# Altium integrated library ON Semi Signal Management Data Switches.IntLib: 121 symbols (part 1 of 4)
Pins are listed as number, name and electrical type; pins without a type are passive.

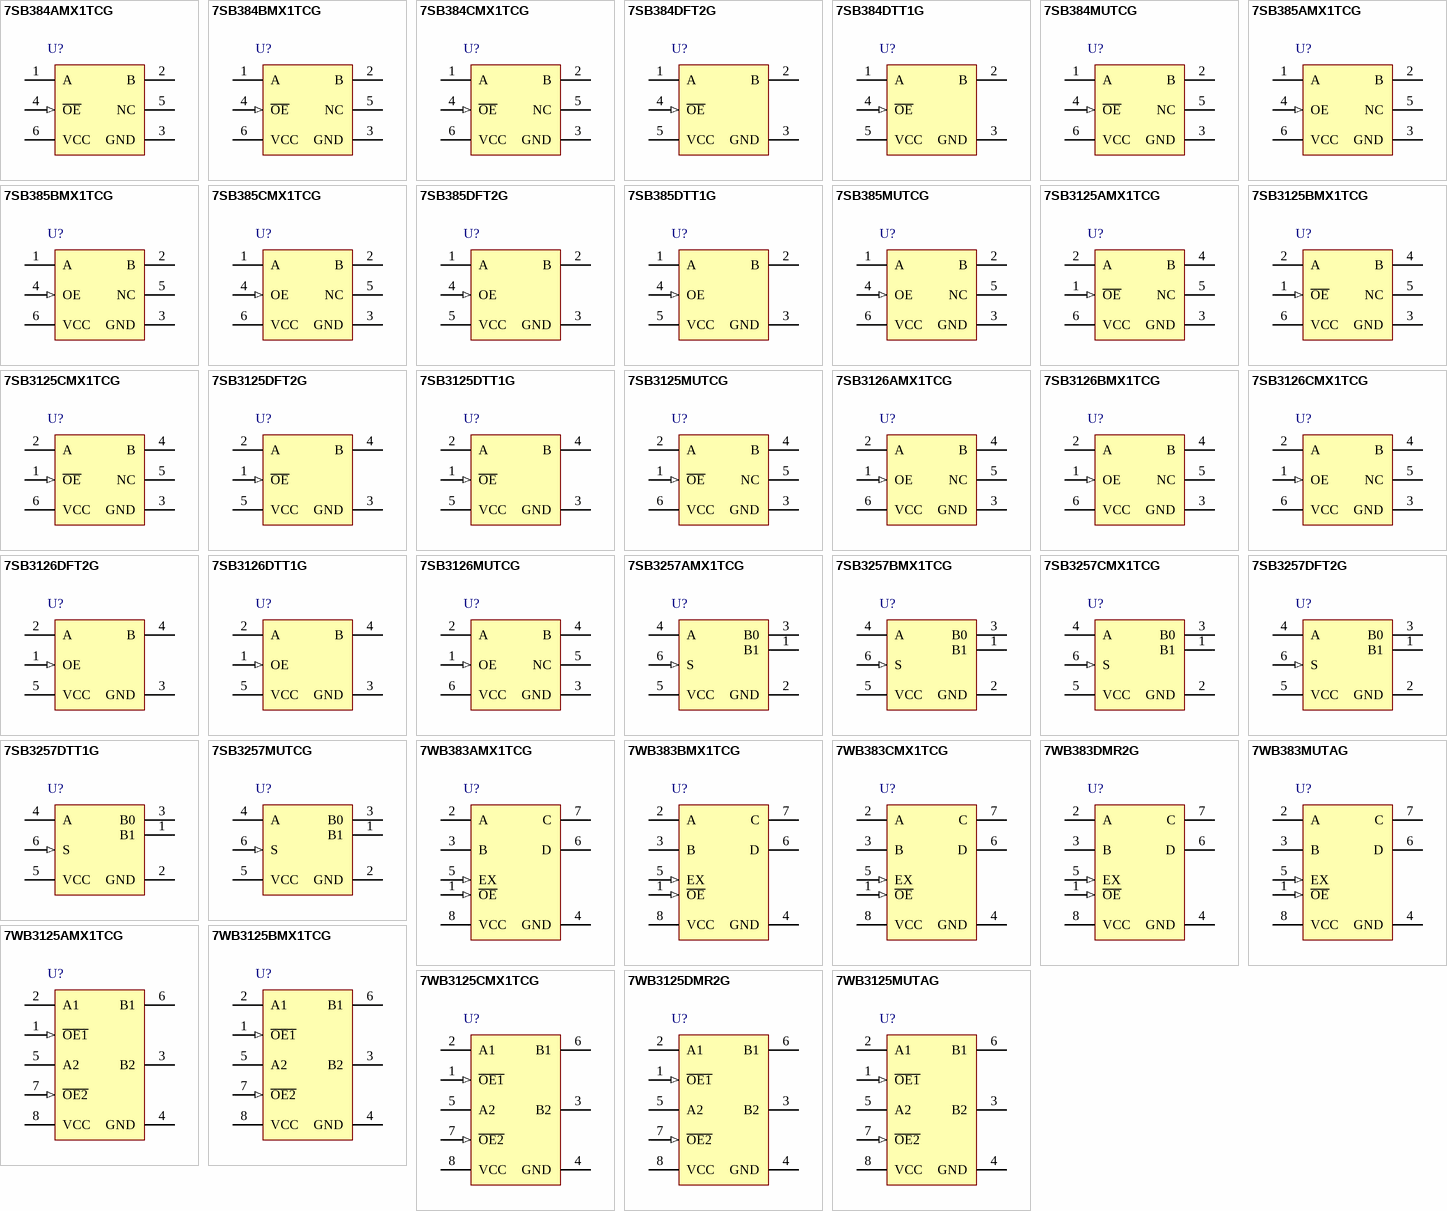
[diagram p0: symbols 7SB384AMX1TCG to 7WB3125MUTAG]

## 7SB384AMX1TCG
designator U?
Bus Switch, 4 to 5.5 V, -55 to 125 degC, 6-Pin ULLGA, Pb-Free, Tape and Reel; Manufacturer: On Semiconductor; PartNumber: 7SB384AMX1TCG; VCC Max (V): 5.5; VCC Min (V): 4; DatasheetVersion: Rev. 2; PackageVersion: Rev. A, 02/2008; PackageReference: ULLGA-6-613AF-01; PackageDescription: 6-Pin Land Grid Array, Body 1.45 x 1 mm, Pitch 0.5 mm; Supplier 1: Digi-Key; Supplier Part Number 1: 7SB384AMX1TCG-ND; Supplier 2: Mouser; Supplier Part Number 2: 863-7SB384AMX1TCG; Packing: Tape and Reel; RoHS: TRUE; Mounting Technology: Surface Mount; ComponentLink1Description: Manufacturer URL; ComponentLink1URL: http://www.onsemi.com/; ComponentLink2Description: Datasheet; ComponentLink2URL: http://www.onsemi.com/pub_link/Collateral/7SB384-D.PDF; ComponentLink3Description: Package Specification; ComponentLink3URL: http://www.onsemi.com/pub_link/Collateral/613AF.PDF
footprint ONSC-ULLGA-6-613AF-01_V (SON, 6-Leads, Body 1.45x1mm, Pitch 0.5mm)
pins: 1 A, 2 B, 3 GND (power), 4 ~{OE} (in), 5 NC, 6 VCC (power)

## 7SB384BMX1TCG
designator U?
Bus Switch, 4 to 5.5 V, -55 to 125 degC, 6-Pin ULLGA, Pb-Free, Tape and Reel; Manufacturer: On Semiconductor; PartNumber: 7SB384BMX1TCG; VCC Max (V): 5.5; VCC Min (V): 4; DatasheetVersion: Rev. 2; PackageVersion: Rev. A, 02/2008; PackageReference: ULLGA-6-613AE-01; PackageDescription: 6-Pin Land Grid Array, Body 1.2 x 1 mm, Pitch 0.4 mm; Supplier 1: Digi-Key; Supplier Part Number 1: 7SB384BMX1TCG-ND; Supplier 2: Mouser; Supplier Part Number 2: 863-7SB384BMX1TCG; Packing: Tape and Reel; RoHS: TRUE; Mounting Technology: Surface Mount; ComponentLink1Description: Manufacturer URL; ComponentLink1URL: http://www.onsemi.com/; ComponentLink2Description: Datasheet; ComponentLink2URL: http://www.onsemi.com/pub_link/Collateral/7SB384-D.PDF; ComponentLink3Description: Package Specification; ComponentLink3URL: http://www.onsemi.com/pub_link/Collateral/613AE.PDF
footprint ONSC-ULLGA-6-613AE-01_V (SON, 6-Leads, Body 1.2x1mm, Pitch 0.4mm)
pins: 1 A, 2 B, 3 GND (power), 4 ~{OE} (in), 5 NC, 6 VCC (power)

## 7SB384CMX1TCG
designator U?
Bus Switch, 4 to 5.5 V, -55 to 125 degC, 6-Pin ULLGA, Pb-Free, Tape and Reel; Manufacturer: On Semiconductor; PartNumber: 7SB384CMX1TCG; VCC Max (V): 5.5; VCC Min (V): 4; DatasheetVersion: Rev. 2; PackageVersion: Rev. A, 02/2008; PackageReference: ULLGA-6-613AD-01; PackageDescription: 6-Pin Land Grid Array, Body 1 x 1 mm, Pitch 0.35 mm; Supplier 1: Digi-Key; Supplier Part Number 1: 7SB384CMX1TCG-ND; Supplier 2: Mouser; Supplier Part Number 2: 863-7SB384CMX1TCG; Packing: Tape and Reel; RoHS: TRUE; Mounting Technology: Surface Mount; ComponentLink1Description: Manufacturer URL; ComponentLink1URL: http://www.onsemi.com/; ComponentLink2Description: Datasheet; ComponentLink2URL: http://www.onsemi.com/pub_link/Collateral/7SB384-D.PDF; ComponentLink3Description: Package Specification; ComponentLink3URL: http://www.onsemi.com/pub_link/Collateral/613AD.PDF
footprint ONSC-ULLGA-6-613AD-01_V (SON, 6-Leads, Body 1x1mm, Pitch 0.35mm)
pins: 1 A, 2 B, 3 GND (power), 4 ~{OE} (in), 5 NC, 6 VCC (power)

## 7SB384DFT2G
designator U?
Bus Switch, 4 to 5.5 V, -55 to 125 degC, 5-Pin SC-88A, Pb-Free, Tape and Reel; Manufacturer: On Semiconductor; PartNumber: 7SB384DFT2G; VCC Max (V): 5.5; VCC Min (V): 4; DatasheetVersion: Rev. 2; PackageVersion: Rev. K, 07/2010; PackageReference: SC-88A-5-419A-02_K; PackageDescription: 5-Pin Small Outline Transistor, Body 2 x 1.25 mm, Pitch 0.65 mm; Supplier 1: Digi-Key; Supplier Part Number 1: 7SB384DFT2G-ND; Supplier 2: Mouser; Supplier Part Number 2: 863-7SB384DFT2G; Packing: Tape and Reel; RoHS: TRUE; Mounting Technology: Surface Mount; ComponentLink1Description: Manufacturer URL; ComponentLink1URL: http://www.onsemi.com/; ComponentLink2Description: Datasheet; ComponentLink2URL: http://www.onsemi.com/pub_link/Collateral/7SB384-D.PDF; ComponentLink3Description: Package Specification; ComponentLink3URL: http://www.onsemi.com/pub_link/Collateral/MC74VHC1G05-D.PDF
footprint ONSC-SC-88A-5-419A-02_K_N (SOT23, 5-Leads, Body 2.2x1.35mm, Pitch 0.65mm, IPC Medium Density)
footprint ONSC-SC-88A-5-419A-02_K_L (SOT23, 5-Leads, Body 2.2x1.35mm, Pitch 0.65mm, IPC High Density)
footprint ONSC-SC-88A-5-419A-02_K_M (SOT23, 5-Leads, Body 2.2x1.35mm, Pitch 0.65mm, IPC Low Density)
pins: 1 A, 2 B, 3 GND (power), 4 ~{OE} (in), 5 VCC (power)

## 7SB384DTT1G
designator U?
Bus Switch, 4 to 5.5 V, -55 to 125 degC, 5-Pin TSOP, Pb-Free, Tape and Reel; Manufacturer: On Semiconductor; PartNumber: 7SB384DTT1G; VCC Max (V): 5.5; VCC Min (V): 4; DatasheetVersion: Rev. 2; PackageVersion: Rev. K, 04/2013; PackageReference: TSOP-5-483-02; PackageDescription: 5-Pin Small Outline Package, Body 3 x 1.5 mm, Pitch 0.95 mm; Supplier 1: Digi-Key; Supplier Part Number 1: 7SB384DTT1G-ND; Supplier 2: Mouser; Supplier Part Number 2: 863-7SB384DTT1G; Packing: Tape and Reel; RoHS: TRUE; Mounting Technology: Surface Mount; ComponentLink1Description: Manufacturer URL; ComponentLink1URL: http://www.onsemi.com/; ComponentLink2Description: Datasheet; ComponentLink2URL: http://www.onsemi.com/pub_link/Collateral/7SB384-D.PDF; ComponentLink3Description: Package Specification; ComponentLink3URL: http://www.onsemi.com/pub_link/Collateral/483.PDF
footprint ONSC-TSOP-5-483-02_V (SOP, 5-Leads, Body 3x1.5mm, Pitch 0.95mm)
pins: 1 A, 2 B, 3 GND (power), 4 ~{OE} (in), 5 VCC (power)

## 7SB384MUTCG
designator U?
Bus Switch, 4 to 5.5 V, -55 to 125 degC, 6-Pin UDFN, Pb-Free, Tape and Reel; Manufacturer: On Semiconductor; PartNumber: 7SB384MUTCG; VCC Max (V): 5.5; VCC Min (V): 4; DatasheetVersion: Rev. 2; PackageVersion: Rev. D, 09/2010; PackageReference: UDFN-6-517AA-01; PackageDescription: 6-Pin Small Outline No-Lead, Body 1.2 x 1 mm, Pitch 0.4 mm; Supplier 1: Digi-Key; Supplier Part Number 1: 7SB384MUTCG-ND; Supplier 2: Mouser; Supplier Part Number 2: 863-7SB384MUTCG; Packing: Tape and Reel; RoHS: TRUE; Mounting Technology: Surface Mount; ComponentLink1Description: Manufacturer URL; ComponentLink1URL: http://www.onsemi.com/; ComponentLink2Description: Datasheet; ComponentLink2URL: http://www.onsemi.com/pub_link/Collateral/7SB384-D.PDF; ComponentLink3Description: Package Specification; ComponentLink3URL: http://www.onsemi.com/pub_link/Collateral/517AA.PDF
footprint ONSC-UDFN-6-517AA-01_V (SON, 6-Leads, Body 1.2x1mm, Pitch 0.4mm)
pins: 1 A, 2 B, 3 GND (power), 4 ~{OE} (in), 5 NC, 6 VCC (power)

## 7SB385AMX1TCG
designator U?
Bus Switch, 4 to 5.5 V, -55 to 125 degC, 6-Pin ULLGA, Pb-Free, Tape and Reel; Manufacturer: On Semiconductor; PartNumber: 7SB385AMX1TCG; VCC Max (V): 5.5; VCC Min (V): 4; DatasheetVersion: Rev. 2; PackageVersion: Rev. A, 02/2008; PackageReference: ULLGA-6-613AF-01; PackageDescription: 6-Pin Land Grid Array, Body 1.45 x 1 mm, Pitch 0.5 mm; Supplier 1: Digi-Key; Supplier Part Number 1: 7SB385AMX1TCG-ND; Supplier 2: Mouser; Supplier Part Number 2: 863-7SB385AMX1TCG; Packing: Tape and Reel; RoHS: TRUE; Mounting Technology: Surface Mount; ComponentLink1Description: Manufacturer URL; ComponentLink1URL: http://www.onsemi.com/; ComponentLink2Description: Datasheet; ComponentLink2URL: http://www.onsemi.com/pub_link/Collateral/7SB385-D.PDF; ComponentLink3Description: Package Specification; ComponentLink3URL: http://www.onsemi.com/pub_link/Collateral/613AF.PDF
footprint ONSC-ULLGA-6-613AF-01_V (SON, 6-Leads, Body 1.45x1mm, Pitch 0.5mm)
pins: 1 A, 2 B, 3 GND (power), 4 OE (in), 5 NC, 6 VCC (power)

## 7SB385BMX1TCG
designator U?
Bus Switch, 4 to 5.5 V, -55 to 125 degC, 6-Pin ULLGA, Pb-Free, Tape and Reel; Manufacturer: On Semiconductor; PartNumber: 7SB385BMX1TCG; VCC Max (V): 5.5; VCC Min (V): 4; DatasheetVersion: Rev. 2; PackageVersion: Rev. A, 02/2008; PackageReference: ULLGA-6-613AE-01; PackageDescription: 6-Pin Land Grid Array, Body 1.2 x 1 mm, Pitch 0.4 mm; Supplier 1: Digi-Key; Supplier Part Number 1: 7SB385BMX1TCG-ND; Supplier 2: Mouser; Supplier Part Number 2: 863-7SB385BMX1TCG; Packing: Tape and Reel; RoHS: TRUE; Mounting Technology: Surface Mount; ComponentLink1Description: Manufacturer URL; ComponentLink1URL: http://www.onsemi.com/; ComponentLink2Description: Datasheet; ComponentLink2URL: http://www.onsemi.com/pub_link/Collateral/7SB385-D.PDF; ComponentLink3Description: Package Specification; ComponentLink3URL: http://www.onsemi.com/pub_link/Collateral/613AE.PDF
footprint ONSC-ULLGA-6-613AE-01_V (SON, 6-Leads, Body 1.2x1mm, Pitch 0.4mm)
pins: 1 A, 2 B, 3 GND (power), 4 OE (in), 5 NC, 6 VCC (power)

## 7SB385CMX1TCG
designator U?
Bus Switch, 4 to 5.5 V, -55 to 125 degC, 6-Pin ULLGA, Pb-Free, Tape and Reel; Manufacturer: On Semiconductor; PartNumber: 7SB385CMX1TCG; VCC Max (V): 5.5; VCC Min (V): 4; DatasheetVersion: Rev. 2; PackageVersion: Rev. A, 02/2008; PackageReference: ULLGA-6-613AD-01; PackageDescription: 6-Pin Land Grid Array, Body 1 x 1 mm, Pitch 0.35 mm; Supplier 1: Digi-Key; Supplier Part Number 1: 7SB385CMX1TCG-ND; Supplier 2: Mouser; Supplier Part Number 2: 863-7SB385CMX1TCG; Packing: Tape and Reel; RoHS: TRUE; Mounting Technology: Surface Mount; ComponentLink1Description: Manufacturer URL; ComponentLink1URL: http://www.onsemi.com/; ComponentLink2Description: Datasheet; ComponentLink2URL: http://www.onsemi.com/pub_link/Collateral/7SB385-D.PDF; ComponentLink3Description: Package Specification; ComponentLink3URL: http://www.onsemi.com/pub_link/Collateral/613AD.PDF
footprint ONSC-ULLGA-6-613AD-01_V (SON, 6-Leads, Body 1x1mm, Pitch 0.35mm)
pins: 1 A, 2 B, 3 GND (power), 4 OE (in), 5 NC, 6 VCC (power)

## 7SB385DFT2G
designator U?
Bus Switch, 4 to 5.5 V, -55 to 125 degC, 5-Pin SC-88A, Pb-Free, Tape and Reel; Manufacturer: On Semiconductor; PartNumber: 7SB385DFT2G; VCC Max (V): 5.5; VCC Min (V): 4; DatasheetVersion: Rev. 2; PackageVersion: Rev. K, 07/2010; PackageReference: SC-88A-5-419A-02_K; PackageDescription: 5-Pin Small Outline Transistor, Body 2 x 1.25 mm, Pitch 0.65 mm; Supplier 1: Digi-Key; Supplier Part Number 1: 7SB385DFT2G-ND; Supplier 2: Mouser; Supplier Part Number 2: 863-7SB385DFT2G; Packing: Tape and Reel; RoHS: TRUE; Mounting Technology: Surface Mount; ComponentLink1Description: Manufacturer URL; ComponentLink1URL: http://www.onsemi.com/; ComponentLink2Description: Datasheet; ComponentLink2URL: http://www.onsemi.com/pub_link/Collateral/7SB385-D.PDF; ComponentLink3Description: Package Specification; ComponentLink3URL: http://www.onsemi.com/pub_link/Collateral/MC74VHC1G05-D.PDF
footprint ONSC-SC-88A-5-419A-02_K_N (SOT23, 5-Leads, Body 2.2x1.35mm, Pitch 0.65mm, IPC Medium Density)
footprint ONSC-SC-88A-5-419A-02_K_L (SOT23, 5-Leads, Body 2.2x1.35mm, Pitch 0.65mm, IPC High Density)
footprint ONSC-SC-88A-5-419A-02_K_M (SOT23, 5-Leads, Body 2.2x1.35mm, Pitch 0.65mm, IPC Low Density)
pins: 1 A, 2 B, 3 GND (power), 4 OE (in), 5 VCC (power)

## 7SB385DTT1G
designator U?
Bus Switch, 4 to 5.5 V, -55 to 125 degC, 5-Pin TSOP, Pb-Free, Tape and Reel; Manufacturer: On Semiconductor; PartNumber: 7SB385DTT1G; VCC Max (V): 5.5; VCC Min (V): 4; DatasheetVersion: Rev. 2; PackageVersion: Rev. K, 04/2013; PackageReference: TSOP-5-483-02; PackageDescription: 5-Pin Small Outline Package, Body 3 x 1.5 mm, Pitch 0.95 mm; Supplier 1: Digi-Key; Supplier Part Number 1: 7SB385DTT1G-ND; Supplier 2: Mouser; Supplier Part Number 2: 863-7SB385DTT1G; Packing: Tape and Reel; RoHS: TRUE; Mounting Technology: Surface Mount; ComponentLink1Description: Manufacturer URL; ComponentLink1URL: http://www.onsemi.com/; ComponentLink2Description: Datasheet; ComponentLink2URL: http://www.onsemi.com/pub_link/Collateral/7SB385-D.PDF; ComponentLink3Description: Package Specification; ComponentLink3URL: http://www.onsemi.com/pub_link/Collateral/483.PDF
footprint ONSC-TSOP-5-483-02_V (SOP, 5-Leads, Body 3x1.5mm, Pitch 0.95mm)
pins: 1 A, 2 B, 3 GND (power), 4 OE (in), 5 VCC (power)

## 7SB385MUTCG
designator U?
Bus Switch, 4 to 5.5 V, -55 to 125 degC, 6-Pin UDFN, Pb-Free, Tape and Reel; Manufacturer: On Semiconductor; PartNumber: 7SB385MUTCG; VCC Max (V): 5.5; VCC Min (V): 4; DatasheetVersion: Rev. 2; PackageVersion: Rev. D, 09/2010; PackageReference: UDFN-6-517AA-01; PackageDescription: 6-Pin Small Outline No-Lead, Body 1.2 x 1 mm, Pitch 0.4 mm; Supplier 1: Digi-Key; Supplier Part Number 1: 7SB385MUTCG-ND; Supplier 2: Mouser; Supplier Part Number 2: 863-7SB385MUTCG; Packing: Tape and Reel; RoHS: TRUE; Mounting Technology: Surface Mount; ComponentLink1Description: Manufacturer URL; ComponentLink1URL: http://www.onsemi.com/; ComponentLink2Description: Datasheet; ComponentLink2URL: http://www.onsemi.com/pub_link/Collateral/7SB385-D.PDF; ComponentLink3Description: Package Specification; ComponentLink3URL: http://www.onsemi.com/pub_link/Collateral/517AA.PDF
footprint ONSC-UDFN-6-517AA-01_V (SON, 6-Leads, Body 1.2x1mm, Pitch 0.4mm)
pins: 1 A, 2 B, 3 GND (power), 4 OE (in), 5 NC, 6 VCC (power)

## 7SB3125AMX1TCG
designator U?
Bus Switch, 4 to 5.5 V, -55 to 125 degC, 6-Pin ULLGA, Pb-Free, Tape and Reel; Manufacturer: On Semiconductor; PartNumber: 7SB3125AMX1TCG; VCC Max (V): 5.5; VCC Min (V): 4; DatasheetVersion: Rev. 1; PackageVersion: Rev. A, 02/2008; PackageReference: ULLGA-6-613AF-01; PackageDescription: 6-Pin Land Grid Array, Body 1.45 x 1 mm, Pitch 0.5 mm; Supplier 1: Digi-Key; Supplier Part Number 1: 7SB3125AMX1TCG-ND; Supplier 2: Mouser; Supplier Part Number 2: 863-7SB3125AMX1TCG; Packing: Tape and Reel; RoHS: TRUE; Mounting Technology: Surface Mount; ComponentLink1Description: Manufacturer URL; ComponentLink1URL: http://www.onsemi.com/; ComponentLink2Description: Datasheet; ComponentLink2URL: http://www.onsemi.com/pub_link/Collateral/7SB3125-D.PDF; ComponentLink3Description: Package Specification; ComponentLink3URL: http://www.onsemi.com/pub_link/Collateral/613AF.PDF
footprint ONSC-ULLGA-6-613AF-01_V (SON, 6-Leads, Body 1.45x1mm, Pitch 0.5mm)
pins: 1 ~{OE} (in), 2 A, 3 GND (power), 4 B, 5 NC, 6 VCC (power)

## 7SB3125BMX1TCG
designator U?
Bus Switch, 4 to 5.5 V, -55 to 125 degC, 6-Pin ULLGA, Pb-Free, Tape and Reel; Manufacturer: On Semiconductor; PartNumber: 7SB3125BMX1TCG; VCC Max (V): 5.5; VCC Min (V): 4; DatasheetVersion: Rev. 1; PackageVersion: Rev. A, 02/2008; PackageReference: ULLGA-6-613AE-01; PackageDescription: 6-Pin Land Grid Array, Body 1.2 x 1 mm, Pitch 0.4 mm; Supplier 1: Digi-Key; Supplier Part Number 1: 7SB3125BMX1TCG-ND; Supplier 2: Mouser; Supplier Part Number 2: 863-7SB3125BMX1TCG; Packing: Tape and Reel; RoHS: TRUE; Mounting Technology: Surface Mount; ComponentLink1Description: Manufacturer URL; ComponentLink1URL: http://www.onsemi.com/; ComponentLink2Description: Datasheet; ComponentLink2URL: http://www.onsemi.com/pub_link/Collateral/7SB3125-D.PDF; ComponentLink3Description: Package Specification; ComponentLink3URL: http://www.onsemi.com/pub_link/Collateral/613AE.PDF
footprint ONSC-ULLGA-6-613AE-01_V (SON, 6-Leads, Body 1.2x1mm, Pitch 0.4mm)
pins: 1 ~{OE} (in), 2 A, 3 GND (power), 4 B, 5 NC, 6 VCC (power)

## 7SB3125CMX1TCG
designator U?
Bus Switch, 4 to 5.5 V, -55 to 125 degC, 6-Pin ULLGA, Pb-Free, Tape and Reel; Manufacturer: On Semiconductor; PartNumber: 7SB3125CMX1TCG; VCC Max (V): 5.5; VCC Min (V): 4; DatasheetVersion: Rev. 1; PackageVersion: Rev. A, 02/2008; PackageReference: ULLGA-6-613AD-01; PackageDescription: 6-Pin Land Grid Array, Body 1 x 1 mm, Pitch 0.35 mm; Supplier 1: Digi-Key; Supplier Part Number 1: 7SB3125CMX1TCG-ND; Supplier 2: Mouser; Supplier Part Number 2: 863-7SB3125CMX1TCG; Packing: Tape and Reel; RoHS: TRUE; Mounting Technology: Surface Mount; ComponentLink1Description: Manufacturer URL; ComponentLink1URL: http://www.onsemi.com/; ComponentLink2Description: Datasheet; ComponentLink2URL: http://www.onsemi.com/pub_link/Collateral/7SB3125-D.PDF; ComponentLink3Description: Package Specification; ComponentLink3URL: http://www.onsemi.com/pub_link/Collateral/613AD.PDF
footprint ONSC-ULLGA-6-613AD-01_V (SON, 6-Leads, Body 1x1mm, Pitch 0.35mm)
pins: 1 ~{OE} (in), 2 A, 3 GND (power), 4 B, 5 NC, 6 VCC (power)

## 7SB3125DFT2G
designator U?
Bus Switch, 4 to 5.5 V, -55 to 125 degC, 5-Pin SC-88A, Pb-Free, Tape and Reel; Manufacturer: On Semiconductor; PartNumber: 7SB3125DFT2G; VCC Max (V): 5.5; VCC Min (V): 4; DatasheetVersion: Rev. 1; PackageVersion: Rev. K, 07/2010; PackageReference: SC-88A-5-419A-02_K; PackageDescription: 5-Pin Small Outline Transistor, Body 2 x 1.25 mm, Pitch 0.65 mm; Supplier 1: Digi-Key; Supplier Part Number 1: 7SB3125DFT2G-ND; Supplier 2: Mouser; Supplier Part Number 2: 863-7SB3125DFT2G; Packing: Tape and Reel; RoHS: TRUE; Mounting Technology: Surface Mount; ComponentLink1Description: Manufacturer URL; ComponentLink1URL: http://www.onsemi.com/; ComponentLink2Description: Datasheet; ComponentLink2URL: http://www.onsemi.com/pub_link/Collateral/7SB3125-D.PDF; ComponentLink3Description: Package Specification; ComponentLink3URL: http://www.onsemi.com/pub_link/Collateral/MC74VHC1G05-D.PDF
footprint ONSC-SC-88A-5-419A-02_K_N (SOT23, 5-Leads, Body 2.2x1.35mm, Pitch 0.65mm, IPC Medium Density)
footprint ONSC-SC-88A-5-419A-02_K_L (SOT23, 5-Leads, Body 2.2x1.35mm, Pitch 0.65mm, IPC High Density)
footprint ONSC-SC-88A-5-419A-02_K_M (SOT23, 5-Leads, Body 2.2x1.35mm, Pitch 0.65mm, IPC Low Density)
pins: 1 ~{OE} (in), 2 A, 3 GND (power), 4 B, 5 VCC (power)

## 7SB3125DTT1G
designator U?
Bus Switch, 4 to 5.5 V, -55 to 125 degC, 5-Pin TSOP, Pb-Free, Tape and Reel; Manufacturer: On Semiconductor; PartNumber: 7SB3125DTT1G; VCC Max (V): 5.5; VCC Min (V): 4; DatasheetVersion: Rev. 1; PackageVersion: Rev. K, 04/2013; PackageReference: TSOP-5-483-02; PackageDescription: 5-Pin Small Outline Package, Body 3 x 1.5 mm, Pitch 0.95 mm; Supplier 1: Digi-Key; Supplier Part Number 1: 7SB3125DTT1G-ND; Supplier 2: Mouser; Supplier Part Number 2: 863-7SB3125DTT1G; Packing: Tape and Reel; RoHS: TRUE; Mounting Technology: Surface Mount; ComponentLink1Description: Manufacturer URL; ComponentLink1URL: http://www.onsemi.com/; ComponentLink2Description: Datasheet; ComponentLink2URL: http://www.onsemi.com/pub_link/Collateral/7SB3125-D.PDF; ComponentLink3Description: Package Specification; ComponentLink3URL: http://www.onsemi.com/pub_link/Collateral/483.PDF
footprint ONSC-TSOP-5-483-02_V (SOP, 5-Leads, Body 3x1.5mm, Pitch 0.95mm)
pins: 1 ~{OE} (in), 2 A, 3 GND (power), 4 B, 5 VCC (power)

## 7SB3125MUTCG
designator U?
Bus Switch, 4 to 5.5 V, -55 to 125 degC, 6-Pin UDFN, Pb-Free, Tape and Reel; Manufacturer: On Semiconductor; PartNumber: 7SB3125MUTCG; VCC Max (V): 5.5; VCC Min (V): 4; DatasheetVersion: Rev. 1; PackageVersion: Rev. D, 09/2010; PackageReference: UDFN-6-517AA-01; PackageDescription: 6-Pin Small Outline No-Lead, Body 1.2 x 1 mm, Pitch 0.4 mm; Supplier 1: Digi-Key; Supplier Part Number 1: 7SB3125MUTCG-ND; Supplier 2: Mouser; Supplier Part Number 2: 863-7SB3125MUTCG; Packing: Tape and Reel; RoHS: TRUE; Mounting Technology: Surface Mount; ComponentLink1Description: Manufacturer URL; ComponentLink1URL: http://www.onsemi.com/; ComponentLink2Description: Datasheet; ComponentLink2URL: http://www.onsemi.com/pub_link/Collateral/7SB3125-D.PDF; ComponentLink3Description: Package Specification; ComponentLink3URL: http://www.onsemi.com/pub_link/Collateral/517AA.PDF
footprint ONSC-UDFN-6-517AA-01_V (SON, 6-Leads, Body 1.2x1mm, Pitch 0.4mm)
pins: 1 ~{OE} (in), 2 A, 3 GND (power), 4 B, 5 NC, 6 VCC (power)

## 7SB3126AMX1TCG
designator U?
Bus Switch, 4 to 5.5 V, -55 to 125 degC, 6-Pin ULLGA, Pb-Free, Tape and Reel; Manufacturer: On Semiconductor; PartNumber: 7SB3126AMX1TCG; VCC Max (V): 5.5; VCC Min (V): 4; DatasheetVersion: Rev. 1; PackageVersion: Rev. A, 02/2008; PackageReference: ULLGA-6-613AF-01; PackageDescription: 6-Pin Land Grid Array, Body 1.45 x 1 mm, Pitch 0.5 mm; Supplier 1: Digi-Key; Supplier Part Number 1: 7SB3126AMX1TCG-ND; Supplier 2: Mouser; Supplier Part Number 2: 863-7SB3126AMX1TCG; Packing: Tape and Reel; RoHS: TRUE; Mounting Technology: Surface Mount; ComponentLink1Description: Manufacturer URL; ComponentLink1URL: http://www.onsemi.com/; ComponentLink2Description: Datasheet; ComponentLink2URL: http://www.onsemi.com/pub_link/Collateral/7SB3126-D.PDF; ComponentLink3Description: Package Specification; ComponentLink3URL: http://www.onsemi.com/pub_link/Collateral/613AF.PDF
footprint ONSC-ULLGA-6-613AF-01_V (SON, 6-Leads, Body 1.45x1mm, Pitch 0.5mm)
pins: 1 OE (in), 2 A, 3 GND (power), 4 B, 5 NC, 6 VCC (power)

## 7SB3126BMX1TCG
designator U?
Bus Switch, 4 to 5.5 V, -55 to 125 degC, 6-Pin ULLGA, Pb-Free, Tape and Reel; Manufacturer: On Semiconductor; PartNumber: 7SB3126BMX1TCG; VCC Max (V): 5.5; VCC Min (V): 4; DatasheetVersion: Rev. 1; PackageVersion: Rev. A, 02/2008; PackageReference: ULLGA-6-613AE-01; PackageDescription: 6-Pin Land Grid Array, Body 1.2 x 1 mm, Pitch 0.4 mm; Supplier 1: Digi-Key; Supplier Part Number 1: 7SB3126BMX1TCG-ND; Supplier 2: Mouser; Supplier Part Number 2: 863-7SB3126BMX1TCG; Packing: Tape and Reel; RoHS: TRUE; Mounting Technology: Surface Mount; ComponentLink1Description: Manufacturer URL; ComponentLink1URL: http://www.onsemi.com/; ComponentLink2Description: Datasheet; ComponentLink2URL: http://www.onsemi.com/pub_link/Collateral/7SB3126-D.PDF; ComponentLink3Description: Package Specification; ComponentLink3URL: http://www.onsemi.com/pub_link/Collateral/613AE.PDF
footprint ONSC-ULLGA-6-613AE-01_V (SON, 6-Leads, Body 1.2x1mm, Pitch 0.4mm)
pins: 1 OE (in), 2 A, 3 GND (power), 4 B, 5 NC, 6 VCC (power)

## 7SB3126CMX1TCG
designator U?
Bus Switch, 4 to 5.5 V, -55 to 125 degC, 6-Pin ULLGA, Pb-Free, Tape and Reel; Manufacturer: On Semiconductor; PartNumber: 7SB3126CMX1TCG; VCC Max (V): 5.5; VCC Min (V): 4; DatasheetVersion: Rev. 1; PackageVersion: Rev. A, 02/2008; PackageReference: ULLGA-6-613AD-01; PackageDescription: 6-Pin Land Grid Array, Body 1 x 1 mm, Pitch 0.35 mm; Supplier 1: Digi-Key; Supplier Part Number 1: 7SB3126CMX1TCG-ND; Supplier 2: Mouser; Supplier Part Number 2: 863-7SB3126CMX1TCG; Packing: Tape and Reel; RoHS: TRUE; Mounting Technology: Surface Mount; ComponentLink1Description: Manufacturer URL; ComponentLink1URL: http://www.onsemi.com/; ComponentLink2Description: Datasheet; ComponentLink2URL: http://www.onsemi.com/pub_link/Collateral/7SB3126-D.PDF; ComponentLink3Description: Package Specification; ComponentLink3URL: http://www.onsemi.com/pub_link/Collateral/613AD.PDF
footprint ONSC-ULLGA-6-613AD-01_V (SON, 6-Leads, Body 1x1mm, Pitch 0.35mm)
pins: 1 OE (in), 2 A, 3 GND (power), 4 B, 5 NC, 6 VCC (power)

## 7SB3126DFT2G
designator U?
Bus Switch, 4 to 5.5 V, -55 to 125 degC, 5-Pin SC-88A, Pb-Free, Tape and Reel; Manufacturer: On Semiconductor; PartNumber: 7SB3126DFT2G; VCC Max (V): 5.5; VCC Min (V): 4; DatasheetVersion: Rev. 1; PackageVersion: Rev. K, 07/2010; PackageReference: SC-88A-5-419A-02_K; PackageDescription: 5-Pin Small Outline Transistor, Body 2 x 1.25 mm, Pitch 0.65 mm; Supplier 1: Digi-Key; Supplier Part Number 1: 7SB3126DFT2G-ND; Supplier 2: Mouser; Supplier Part Number 2: 863-7SB3126DFT2G; Packing: Tape and Reel; RoHS: TRUE; Mounting Technology: Surface Mount; ComponentLink1Description: Manufacturer URL; ComponentLink1URL: http://www.onsemi.com/; ComponentLink2Description: Datasheet; ComponentLink2URL: http://www.onsemi.com/pub_link/Collateral/7SB3126-D.PDF; ComponentLink3Description: Package Specification; ComponentLink3URL: http://www.onsemi.com/pub_link/Collateral/MC74VHC1G05-D.PDF
footprint ONSC-SC-88A-5-419A-02_K_N (SOT23, 5-Leads, Body 2.2x1.35mm, Pitch 0.65mm, IPC Medium Density)
footprint ONSC-SC-88A-5-419A-02_K_L (SOT23, 5-Leads, Body 2.2x1.35mm, Pitch 0.65mm, IPC High Density)
footprint ONSC-SC-88A-5-419A-02_K_M (SOT23, 5-Leads, Body 2.2x1.35mm, Pitch 0.65mm, IPC Low Density)
pins: 1 OE (in), 2 A, 3 GND (power), 4 B, 5 VCC (power)

## 7SB3126DTT1G
designator U?
Bus Switch, 4 to 5.5 V, -55 to 125 degC, 5-Pin TSOP, Pb-Free, Tape and Reel; Manufacturer: On Semiconductor; PartNumber: 7SB3126DTT1G; VCC Max (V): 5.5; VCC Min (V): 4; DatasheetVersion: Rev. 1; PackageVersion: Rev. K, 04/2013; PackageReference: TSOP-5-483-02; PackageDescription: 5-Pin Small Outline Package, Body 3 x 1.5 mm, Pitch 0.95 mm; Supplier 1: Digi-Key; Supplier Part Number 1: 7SB3126DTT1G-ND; Supplier 2: Mouser; Supplier Part Number 2: 863-7SB3126DTT1G; Packing: Tape and Reel; RoHS: TRUE; Mounting Technology: Surface Mount; ComponentLink1Description: Manufacturer URL; ComponentLink1URL: http://www.onsemi.com/; ComponentLink2Description: Datasheet; ComponentLink2URL: http://www.onsemi.com/pub_link/Collateral/7SB3126-D.PDF; ComponentLink3Description: Package Specification; ComponentLink3URL: http://www.onsemi.com/pub_link/Collateral/483.PDF
footprint ONSC-TSOP-5-483-02_V (SOP, 5-Leads, Body 3x1.5mm, Pitch 0.95mm)
pins: 1 OE (in), 2 A, 3 GND (power), 4 B, 5 VCC (power)

## 7SB3126MUTCG
designator U?
Bus Switch, 4 to 5.5 V, -55 to 125 degC, 6-Pin UDFN, Pb-Free, Tape and Reel; Manufacturer: On Semiconductor; PartNumber: 7SB3126MUTCG; VCC Max (V): 5.5; VCC Min (V): 4; DatasheetVersion: Rev. 1; PackageVersion: Rev. D, 09/2010; PackageReference: UDFN-6-517AA-01; PackageDescription: 6-Pin Small Outline No-Lead, Body 1.2 x 1 mm, Pitch 0.4 mm; Supplier 1: Digi-Key; Supplier Part Number 1: 7SB3126MUTCG-ND; Supplier 2: Mouser; Supplier Part Number 2: 863-7SB3126MUTCG; Packing: Tape and Reel; RoHS: TRUE; Mounting Technology: Surface Mount; ComponentLink1Description: Manufacturer URL; ComponentLink1URL: http://www.onsemi.com/; ComponentLink2Description: Datasheet; ComponentLink2URL: http://www.onsemi.com/pub_link/Collateral/7SB3126-D.PDF; ComponentLink3Description: Package Specification; ComponentLink3URL: http://www.onsemi.com/pub_link/Collateral/517AA.PDF
footprint ONSC-UDFN-6-517AA-01_V (SON, 6-Leads, Body 1.2x1mm, Pitch 0.4mm)
pins: 1 OE (in), 2 A, 3 GND (power), 4 B, 5 NC, 6 VCC (power)

## 7SB3257AMX1TCG
designator U?
Mux / Demux Bus Switch, 4 to 5.5 V, -55 to 125 degC, 6-Pin ULLGA, Pb-Free, Tape and Reel; Manufacturer: On Semiconductor; PartNumber: 7SB3257AMX1TCG; VCC Max (V): 5.5; VCC Min (V): 4; DatasheetVersion: Rev. 3; PackageVersion: Rev. A, 02/2008; PackageReference: ULLGA-6-613AF-01; PackageDescription: 6-Pin Land Grid Array, Body 1.45 x 1 mm, Pitch 0.5 mm; Supplier 1: Digi-Key; Supplier Part Number 1: 7SB3257AMX1TCG-ND; Supplier 2: Mouser; Supplier Part Number 2: 863-7SB3257AMX1TCG; Packing: Tape and Reel; RoHS: TRUE; Mounting Technology: Surface Mount; ComponentLink1Description: Manufacturer URL; ComponentLink1URL: http://www.onsemi.com/; ComponentLink2Description: Datasheet; ComponentLink2URL: http://www.onsemi.com/pub_link/Collateral/7SB3257-D.PDF; ComponentLink3Description: Package Specification; ComponentLink3URL: http://www.onsemi.com/pub_link/Collateral/613AF.PDF
footprint ONSC-ULLGA-6-613AF-01_V (SON, 6-Leads, Body 1.45x1mm, Pitch 0.5mm)
pins: 1 B1, 2 GND (power), 3 B0, 4 A, 5 VCC (power), 6 S (in)

## 7SB3257BMX1TCG
designator U?
Mux / Demux Bus Switch, 4 to 5.5 V, -55 to 125 degC, 6-Pin ULLGA, Pb-Free, Tape and Reel; Manufacturer: On Semiconductor; PartNumber: 7SB3257BMX1TCG; VCC Max (V): 5.5; VCC Min (V): 4; DatasheetVersion: Rev. 3; PackageVersion: Rev. A, 02/2008; PackageReference: ULLGA-6-613AE-01; PackageDescription: 6-Pin Land Grid Array, Body 1.2 x 1 mm, Pitch 0.4 mm; Supplier 1: Digi-Key; Supplier Part Number 1: 7SB3257BMX1TCG-ND; Supplier 2: Mouser; Supplier Part Number 2: 863-7SB3257BMX1TCG; Packing: Tape and Reel; RoHS: TRUE; Mounting Technology: Surface Mount; ComponentLink1Description: Manufacturer URL; ComponentLink1URL: http://www.onsemi.com/; ComponentLink2Description: Datasheet; ComponentLink2URL: http://www.onsemi.com/pub_link/Collateral/7SB3257-D.PDF; ComponentLink3Description: Package Specification; ComponentLink3URL: http://www.onsemi.com/pub_link/Collateral/613AE.PDF
footprint ONSC-ULLGA-6-613AE-01_V (SON, 6-Leads, Body 1.2x1mm, Pitch 0.4mm)
pins: 1 B1, 2 GND (power), 3 B0, 4 A, 5 VCC (power), 6 S (in)

## 7SB3257CMX1TCG
designator U?
Mux / Demux Bus Switch, 4 to 5.5 V, -55 to 125 degC, 6-Pin ULLGA, Pb-Free, Tape and Reel; Manufacturer: On Semiconductor; PartNumber: 7SB3257CMX1TCG; VCC Max (V): 5.5; VCC Min (V): 4; DatasheetVersion: Rev. 3; PackageVersion: Rev. A, 02/2008; PackageReference: ULLGA-6-613AD-01; PackageDescription: 6-Pin Land Grid Array, Body 1 x 1 mm, Pitch 0.35 mm; Supplier 1: Digi-Key; Supplier Part Number 1: 7SB3257CMX1TCG-ND; Supplier 2: Mouser; Supplier Part Number 2: 863-7SB3257CMX1TCG; Packing: Tape and Reel; RoHS: TRUE; Mounting Technology: Surface Mount; ComponentLink1Description: Manufacturer URL; ComponentLink1URL: http://www.onsemi.com/; ComponentLink2Description: Datasheet; ComponentLink2URL: http://www.onsemi.com/pub_link/Collateral/7SB3257-D.PDF; ComponentLink3Description: Package Specification; ComponentLink3URL: http://www.onsemi.com/pub_link/Collateral/613AD.PDF
footprint ONSC-ULLGA-6-613AD-01_V (SON, 6-Leads, Body 1x1mm, Pitch 0.35mm)
pins: 1 B1, 2 GND (power), 3 B0, 4 A, 5 VCC (power), 6 S (in)

## 7SB3257DFT2G
designator U?
Mux / Demux Bus Switch, 4 to 5.5 V, -55 to 125 degC, 6-Pin SC70, Pb-Free, Tape and Reel; Manufacturer: On Semiconductor; PartNumber: 7SB3257DFT2G; VCC Max (V): 5.5; VCC Min (V): 4; DatasheetVersion: Rev. 3; PackageVersion: Rev. W, 01/2006; PackageReference: SC70-6-419B-02_W; PackageDescription: 6-Pin Small Outline Transistor, Body 2 x 1.25 mm, Pitch 0.65 mm; Supplier 1: Digi-Key; Supplier Part Number 1: 7SB3257DFT2G-ND; Supplier 2: Mouser; Supplier Part Number 2: 863-7SB3257DFT2G; Packing: Tape and Reel; RoHS: TRUE; Mounting Technology: Surface Mount; ComponentLink1Description: Manufacturer URL; ComponentLink1URL: http://www.onsemi.com/; ComponentLink2Description: Datasheet; ComponentLink2URL: http://www.onsemi.com/pub_link/Collateral/7SB3257-D.PDF; ComponentLink3Description: Package Specification; ComponentLink3URL: http://www.onsemi.com/pub_link/Collateral/SMF05C-D.PDF
footprint ONSC-SC70-6-419B-02_W_V (SOT23, 6-Leads, Body 2.2x1.35mm, Pitch 0.65mm)
pins: 1 B1, 2 GND (power), 3 B0, 4 A, 5 VCC (power), 6 S (in)

## 7SB3257DTT1G
designator U?
Mux / Demux Bus Switch, 4 to 5.5 V, -55 to 125 degC, 6-Pin TSOP, Pb-Free, Tape and Reel; Manufacturer: On Semiconductor; PartNumber: 7SB3257DTT1G; VCC Max (V): 5.5; VCC Min (V): 4; DatasheetVersion: Rev. 3; PackageVersion: Rev. V, 06/2012; PackageReference: TSOP-6-318G-02; PackageDescription: 6-Pin Small Outline Package, Body 3 x 1.5 mm, Pitch 0.95 mm; Supplier 1: Digi-Key; Supplier Part Number 1: 7SB3257DTT1G-ND; Supplier 2: Newark; Supplier Part Number 2: 99R3168; Supplier 3: Mouser; Supplier Part Number 3: 863-7SB3257DTT1G; Packing: Tape and Reel; RoHS: TRUE; Mounting Technology: Surface Mount; ComponentLink1Description: Manufacturer URL; ComponentLink1URL: http://www.onsemi.com/; ComponentLink2Description: Datasheet; ComponentLink2URL: http://www.onsemi.com/pub_link/Collateral/7SB3257-D.PDF; ComponentLink3Description: Package Specification; ComponentLink3URL: http://www.onsemi.com/pub_link/Collateral/318G-02.PDF
footprint ONSC-TSOP-6-318G-02_V (SOP, 6-Leads, Body 3x1.5mm, Pitch 0.95mm)
pins: 1 B1, 2 GND (power), 3 B0, 4 A, 5 VCC (power), 6 S (in)

## 7SB3257MUTCG
designator U?
Mux / Demux Bus Switch, 4 to 5.5 V, -55 to 125 degC, 6-Pin UDFN, Pb-Free, Tape and Reel; Manufacturer: On Semiconductor; PartNumber: 7SB3257MUTCG; VCC Max (V): 5.5; VCC Min (V): 4; DatasheetVersion: Rev. 3; PackageVersion: Rev. D, 09/2010; PackageReference: UDFN-6-517AA-01; PackageDescription: 6-Pin Small Outline No-Lead, Body 1.2 x 1 mm, Pitch 0.4 mm; Supplier 1: Digi-Key; Supplier Part Number 1: 7SB3257MUTCG-ND; Supplier 2: Mouser; Supplier Part Number 2: 863-7SB3257MUTCG; Packing: Tape and Reel; RoHS: TRUE; Mounting Technology: Surface Mount; ComponentLink1Description: Manufacturer URL; ComponentLink1URL: http://www.onsemi.com/; ComponentLink2Description: Datasheet; ComponentLink2URL: http://www.onsemi.com/pub_link/Collateral/7SB3257-D.PDF; ComponentLink3Description: Package Specification; ComponentLink3URL: http://www.onsemi.com/pub_link/Collateral/517AA.PDF
footprint ONSC-UDFN-6-517AA-01_V (SON, 6-Leads, Body 1.2x1mm, Pitch 0.4mm)
pins: 1 B1, 2 GND (power), 3 B0, 4 A, 5 VCC (power), 6 S (in)

## 7WB383AMX1TCG
designator U?
Bus Exchange Switch, 4 to 5.5 V, -55 to 125 degC, 8-Pin ULLGA, Pb-Free, Tape and Reel; Manufacturer: On Semiconductor; PartNumber: 7WB383AMX1TCG; VCC Max (V): 5.5; VCC Min (V): 4; DatasheetVersion: Rev. 0; PackageVersion: Rev. A, 02/2008; PackageReference: ULLGA-8-613AC-01; PackageDescription: 8-Pin Land Grid Array, Body 1.95 x 1 mm, Pitch 0.5 mm; Supplier 1: Digi-Key; Supplier Part Number 1: 7WB383AMX1TCG-ND; Supplier 2: Mouser; Supplier Part Number 2: 863-7WB383AMX1TCG; Packing: Tape and Reel; RoHS: TRUE; Mounting Technology: Surface Mount; ComponentLink1Description: Manufacturer URL; ComponentLink1URL: http://www.onsemi.com/; ComponentLink2Description: Datasheet; ComponentLink2URL: http://www.onsemi.com/pub/Collateral/7WB383-D.PDF; ComponentLink3Description: Package Specification; ComponentLink3URL: http://www.onsemi.com/pub_link/Collateral/613AC.PDF
footprint ONSC-ULLGA-8-613AC-01_V (ULLGA, 8-Leads, Body 1.95x1mm, Pitch 0.5mm)
pins: 1 ~{OE} (in), 2 A, 3 B, 4 GND (power), 5 EX (in), 6 D, 7 C, 8 VCC (power)

## 7WB383BMX1TCG
designator U?
Bus Exchange Switch, 4 to 5.5 V, -55 to 125 degC, 8-Pin ULLGA, Pb-Free, Tape and Reel; Manufacturer: On Semiconductor; PartNumber: 7WB383BMX1TCG; VCC Max (V): 5.5; VCC Min (V): 4; DatasheetVersion: Rev. 0; PackageVersion: Rev. A, 02/2008; PackageReference: ULLGA-8-613AB-01; PackageDescription: 8-Pin Land Grid Array, Body 1.6 x 1 mm, Pitch 0.4 mm; Supplier 1: Digi-Key; Supplier Part Number 1: 7WB383BMX1TCG-ND; Supplier 2: Mouser; Supplier Part Number 2: 863-7WB383BMX1TCG; Packing: Tape and Reel; RoHS: TRUE; Mounting Technology: Surface Mount; ComponentLink1Description: Manufacturer URL; ComponentLink1URL: http://www.onsemi.com/; ComponentLink2Description: Datasheet; ComponentLink2URL: http://www.onsemi.com/pub/Collateral/7WB383-D.PDF; ComponentLink3Description: Package Specification; ComponentLink3URL: http://www.onsemi.com/pub_link/Collateral/613AB.PDF
footprint ONSC-ULLGA-8-613AB-01_V (SON, 8-Leads, Body 1.6x1mm, Pitch 0.4mm)
pins: 1 ~{OE} (in), 2 A, 3 B, 4 GND (power), 5 EX (in), 6 D, 7 C, 8 VCC (power)

## 7WB383CMX1TCG
designator U?
Bus Exchange Switch, 4 to 5.5 V, -55 to 125 degC, 8-Pin ULLGA, Pb-Free, Tape and Reel; Manufacturer: On Semiconductor; PartNumber: 7WB383CMX1TCG; VCC Max (V): 5.5; VCC Min (V): 4; DatasheetVersion: Rev. 0; PackageVersion: Rev. A, 02/2008; PackageReference: ULLGA-8-613AA-01; PackageDescription: 8-Pin Land Grid Array, Body 1.45 x 1 mm, Pitch 0.35 mm; Supplier 1: Digi-Key; Supplier Part Number 1: 7WB383CMX1TCG-ND; Supplier 2: Mouser; Supplier Part Number 2: 863-7WB383CMX1TCG; Packing: Tape and Reel; RoHS: TRUE; Mounting Technology: Surface Mount; ComponentLink1Description: Manufacturer URL; ComponentLink1URL: http://www.onsemi.com/; ComponentLink2Description: Datasheet; ComponentLink2URL: http://www.onsemi.com/pub/Collateral/7WB383-D.PDF; ComponentLink3Description: Package Specification; ComponentLink3URL: http://www.onsemi.com/pub_link/Collateral/613AA.PDF
footprint ONSC-ULLGA-8-613AA-01_V (SON, 8-Leads, Body 1.45x1mm, Pitch 0.35mm)
pins: 1 ~{OE} (in), 2 A, 3 B, 4 GND (power), 5 EX (in), 6 D, 7 C, 8 VCC (power)

## 7WB383DMR2G
designator U?
Bus Exchange Switch, 4 to 5.5 V, -55 to 125 degC, 8-Pin MICRO, Pb-Free, Tape and Reel; Manufacturer: On Semiconductor; PartNumber: 7WB383DMR2G; VCC Max (V): 5.5; VCC Min (V): 4; DatasheetVersion: Rev. 0; PackageVersion: Rev. H; PackageReference: MICRO-8-846A-02_H; PackageDescription: 8-Pin Small Outline Package, Body 3 x 3 mm, Pitch 0.65 mm; Packing: Tape and Reel; RoHS: TRUE; Mounting Technology: Surface Mount; ComponentLink1Description: Manufacturer URL; ComponentLink1URL: http://www.onsemi.com/; ComponentLink2Description: Datasheet; ComponentLink2URL: http://www.onsemi.com/pub/Collateral/7WB383-D.PDF; ComponentLink3Description: Package Specification; ComponentLink3URL: http://www.onsemi.com/pub_link/Collateral/NLSV2T244-D.PDF
footprint ONSC-MICRO-8-846A-02_H_V (SOIC, 8-Leads, Body 3.1x3.1mm, Pitch 0.65mm)
pins: 1 ~{OE} (in), 2 A, 3 B, 4 GND (power), 5 EX (in), 6 D, 7 C, 8 VCC (power)

## 7WB383MUTAG
designator U?
Bus Exchange Switch, 4 to 5.5 V, -55 to 125 degC, 8-Pin UDFN, Pb-Free, Tape and Reel; Manufacturer: On Semiconductor; PartNumber: 7WB383MUTAG; VCC Max (V): 5.5; VCC Min (V): 4; DatasheetVersion: Rev. 0; PackageVersion: Rev. O, 11/2006; PackageReference: UDFN-8-517AJ-01; PackageDescription: 8-Pin Small Outline No-Lead, Body 1.8 x 1.2 mm, Pitch 0.4 mm; Supplier 1: Digi-Key; Supplier Part Number 1: 7WB383MUTAG-ND; Supplier 2: Mouser; Supplier Part Number 2: 863-7WB383MUTAG; Packing: Tape and Reel; RoHS: TRUE; Mounting Technology: Surface Mount; ComponentLink1Description: Manufacturer URL; ComponentLink1URL: http://www.onsemi.com/; ComponentLink2Description: Datasheet; ComponentLink2URL: http://www.onsemi.com/pub/Collateral/7WB383-D.PDF; ComponentLink3Description: Package Specification; ComponentLink3URL: http://www.onsemi.cn/pub_link/Collateral/517AJ.PDF.1
footprint ONSC-UDFN-8-517AJ-01_V (SON, 8-Leads, Body 1.8x1.2mm, Pitch 0.4mm)
pins: 1 ~{OE} (in), 2 A, 3 B, 4 GND (power), 5 EX (in), 6 D, 7 C, 8 VCC (power)

## 7WB3125AMX1TCG
designator U?
2-Bit Bus Switch, 4 to 5.5 V, -55 to 125 degC, 8-Pin ULLGA, Pb-Free, Tape and Reel; Manufacturer: On Semiconductor; PartNumber: 7WB3125AMX1TCG; VCC Max (V): 5.5; VCC Min (V): 4; DatasheetVersion: Rev. 0; PackageVersion: Rev. A, 02/2008; PackageReference: ULLGA-8-613AC-01; PackageDescription: 8-Pin Land Grid Array, Body 1.95 x 1 mm, Pitch 0.5 mm; Supplier 1: Digi-Key; Supplier Part Number 1: 7WB3125AMX1TCG-ND; Supplier 2: Mouser; Supplier Part Number 2: 863-7WB3125AMX1TCG; Packing: Tape and Reel; RoHS: TRUE; Mounting Technology: Surface Mount; ComponentLink1Description: Manufacturer URL; ComponentLink1URL: http://www.onsemi.com/; ComponentLink2Description: Datasheet; ComponentLink2URL: http://www.onsemi.com/pub_link/Collateral/7WB3125-D.PDF; ComponentLink3Description: Package Specification; ComponentLink3URL: http://www.onsemi.com/pub_link/Collateral/613AC.PDF
footprint ONSC-ULLGA-8-613AC-01_V (ULLGA, 8-Leads, Body 1.95x1mm, Pitch 0.5mm)
pins: 1 ~{OE1} (in), 2 A1, 3 B2, 4 GND (power), 5 A2, 6 B1, 7 ~{OE2} (in), 8 VCC (power)

## 7WB3125BMX1TCG
designator U?
2-Bit Bus Switch, 4 to 5.5 V, -55 to 125 degC, 8-Pin ULLGA, Pb-Free, Tape and Reel; Manufacturer: On Semiconductor; PartNumber: 7WB3125BMX1TCG; VCC Max (V): 5.5; VCC Min (V): 4; DatasheetVersion: Rev. 0; PackageVersion: Rev. A, 02/2008; PackageReference: ULLGA-8-613AB-01; PackageDescription: 8-Pin Land Grid Array, Body 1.6 x 1 mm, Pitch 0.4 mm; Supplier 1: Digi-Key; Supplier Part Number 1: 7WB3125BMX1TCG-ND; Supplier 2: Mouser; Supplier Part Number 2: 863-7WB3125BMX1TCG; Packing: Tape and Reel; RoHS: TRUE; Mounting Technology: Surface Mount; ComponentLink1Description: Manufacturer URL; ComponentLink1URL: http://www.onsemi.com/; ComponentLink2Description: Datasheet; ComponentLink2URL: http://www.onsemi.com/pub_link/Collateral/7WB3125-D.PDF; ComponentLink3Description: Package Specification; ComponentLink3URL: http://www.onsemi.com/pub_link/Collateral/613AB.PDF
footprint ONSC-ULLGA-8-613AB-01_V (SON, 8-Leads, Body 1.6x1mm, Pitch 0.4mm)
pins: 1 ~{OE1} (in), 2 A1, 3 B2, 4 GND (power), 5 A2, 6 B1, 7 ~{OE2} (in), 8 VCC (power)

## 7WB3125CMX1TCG
designator U?
2-Bit Bus Switch, 4 to 5.5 V, -55 to 125 degC, 8-Pin ULLGA, Pb-Free, Tape and Reel; Manufacturer: On Semiconductor; PartNumber: 7WB3125CMX1TCG; VCC Max (V): 5.5; VCC Min (V): 4; DatasheetVersion: Rev. 0; PackageVersion: Rev. A, 02/2008; PackageReference: ULLGA-8-613AA-01; PackageDescription: 8-Pin Land Grid Array, Body 1.45 x 1 mm, Pitch 0.35 mm; Supplier 1: Digi-Key; Supplier Part Number 1: 7WB3125CMX1TCG-ND; Supplier 2: Mouser; Supplier Part Number 2: 863-7WB3125CMX1TCG; Packing: Tape and Reel; RoHS: TRUE; Mounting Technology: Surface Mount; ComponentLink1Description: Manufacturer URL; ComponentLink1URL: http://www.onsemi.com/; ComponentLink2Description: Datasheet; ComponentLink2URL: http://www.onsemi.com/pub_link/Collateral/7WB3125-D.PDF; ComponentLink3Description: Package Specification; ComponentLink3URL: http://www.onsemi.com/pub_link/Collateral/613AA.PDF
footprint ONSC-ULLGA-8-613AA-01_V (SON, 8-Leads, Body 1.45x1mm, Pitch 0.35mm)
pins: 1 ~{OE1} (in), 2 A1, 3 B2, 4 GND (power), 5 A2, 6 B1, 7 ~{OE2} (in), 8 VCC (power)

## 7WB3125DMR2G
designator U?
2-Bit Bus Switch, 4 to 5.5 V, -55 to 125 degC, 8-Pin MICRO, Pb-Free, Tape and Reel; Manufacturer: On Semiconductor; PartNumber: 7WB3125DMR2G; VCC Max (V): 5.5; VCC Min (V): 4; DatasheetVersion: Rev. 0; PackageVersion: Rev. H; PackageReference: MICRO-8-846A-02_H; PackageDescription: 8-Pin Small Outline Package, Body 3 x 3 mm, Pitch 0.65 mm; Packing: Tape and Reel; RoHS: TRUE; Mounting Technology: Surface Mount; ComponentLink1Description: Manufacturer URL; ComponentLink1URL: http://www.onsemi.com/; ComponentLink2Description: Datasheet; ComponentLink2URL: http://www.onsemi.com/pub_link/Collateral/7WB3125-D.PDF; ComponentLink3Description: Package Specification; ComponentLink3URL: http://www.onsemi.com/pub_link/Collateral/NLSV2T244-D.PDF
footprint ONSC-MICRO-8-846A-02_H_V (SOIC, 8-Leads, Body 3.1x3.1mm, Pitch 0.65mm)
pins: 1 ~{OE1} (in), 2 A1, 3 B2, 4 GND (power), 5 A2, 6 B1, 7 ~{OE2} (in), 8 VCC (power)

## 7WB3125MUTAG
designator U?
2-Bit Bus Switch, 4 to 5.5 V, -55 to 125 degC, 8-Pin UDFN, Pb-Free, Tape and Reel; Manufacturer: On Semiconductor; PartNumber: 7WB3125MUTAG; VCC Max (V): 5.5; VCC Min (V): 4; DatasheetVersion: Rev. 0; PackageVersion: Rev. O, 11/2006; PackageReference: UDFN-8-517AJ-01; PackageDescription: 8-Pin Small Outline No-Lead, Body 1.8 x 1.2 mm, Pitch 0.4 mm; Supplier 1: Digi-Key; Supplier Part Number 1: 7WB3125MUTAG-ND; Supplier 2: Mouser; Supplier Part Number 2: 863-7WB3125MUTAG; Packing: Tape and Reel; RoHS: TRUE; Mounting Technology: Surface Mount; ComponentLink1Description: Manufacturer URL; ComponentLink1URL: http://www.onsemi.com/; ComponentLink2Description: Datasheet; ComponentLink2URL: http://www.onsemi.com/pub_link/Collateral/7WB3125-D.PDF; ComponentLink3Description: Package Specification; ComponentLink3URL: http://www.onsemi.cn/pub_link/Collateral/517AJ.PDF.1
footprint ONSC-UDFN-8-517AJ-01_V (SON, 8-Leads, Body 1.8x1.2mm, Pitch 0.4mm)
pins: 1 ~{OE1} (in), 2 A1, 3 B2, 4 GND (power), 5 A2, 6 B1, 7 ~{OE2} (in), 8 VCC (power)

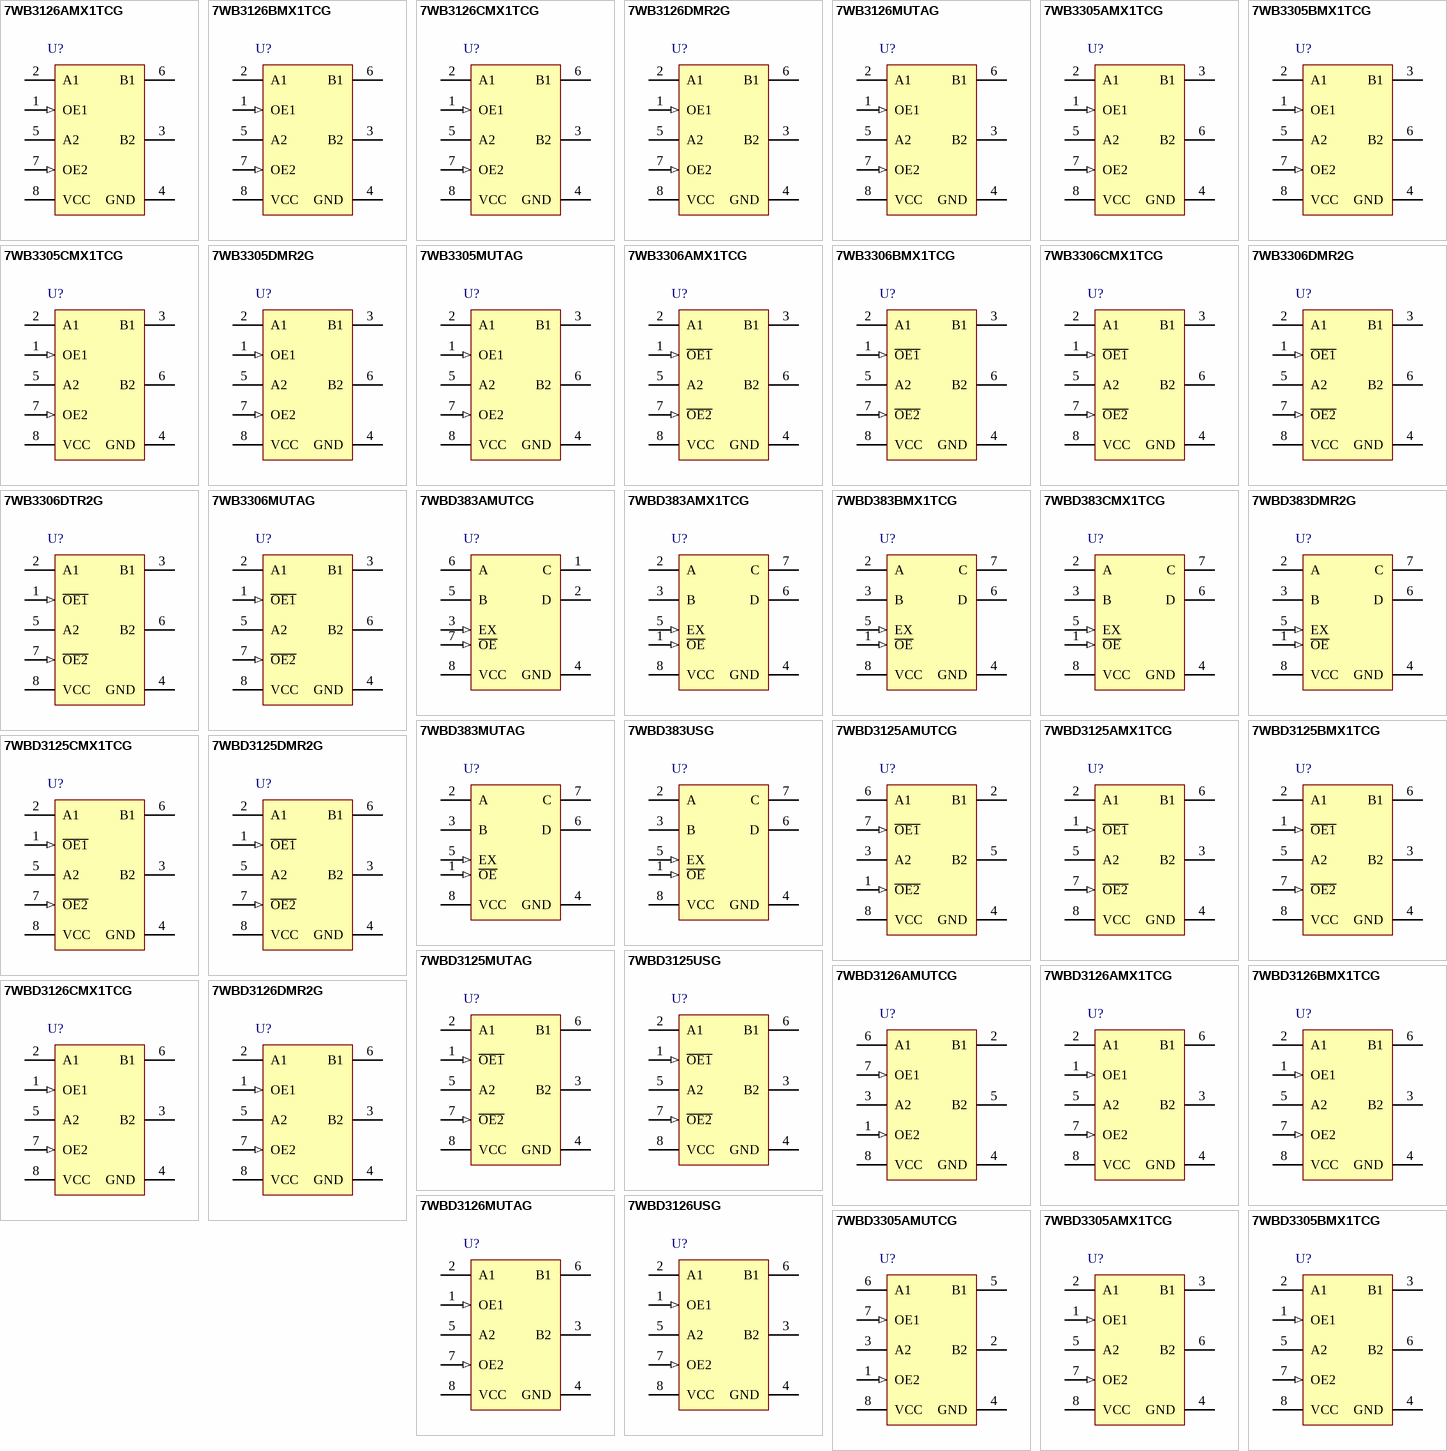
[diagram p1: symbols 7WB3126AMX1TCG to 7WBD3305BMX1TCG]

## 7WB3126AMX1TCG
designator U?
2-Bit Bus Switch, 4 to 5.5 V, -55 to 125 degC, 8-Pin ULLGA, Pb-Free, Tape and Reel; Manufacturer: On Semiconductor; PartNumber: 7WB3126AMX1TCG; VCC Max (V): 5.5; VCC Min (V): 4; DatasheetVersion: Rev. 0; PackageVersion: Rev. A, 02/2008; PackageReference: ULLGA-8-613AC-01; PackageDescription: 8-Pin Land Grid Array, Body 1.95 x 1 mm, Pitch 0.5 mm; Supplier 1: Digi-Key; Supplier Part Number 1: 7WB3126AMX1TCG-ND; Supplier 2: Mouser; Supplier Part Number 2: 863-7WB3126AMX1TCG; Packing: Tape and Reel; RoHS: TRUE; Mounting Technology: Surface Mount; ComponentLink1Description: Manufacturer URL; ComponentLink1URL: http://www.onsemi.com/; ComponentLink2Description: Datasheet; ComponentLink2URL: http://www.onsemi.com/pub_link/Collateral/7WB3126-D.PDF; ComponentLink3Description: Package Specification; ComponentLink3URL: http://www.onsemi.com/pub_link/Collateral/613AC.PDF
footprint ONSC-ULLGA-8-613AC-01_V (ULLGA, 8-Leads, Body 1.95x1mm, Pitch 0.5mm)
pins: 1 OE1 (in), 2 A1, 3 B2, 4 GND (power), 5 A2, 6 B1, 7 OE2 (in), 8 VCC (power)

## 7WB3126BMX1TCG
designator U?
2-Bit Bus Switch, 4 to 5.5 V, -55 to 125 degC, 8-Pin ULLGA, Pb-Free, Tape and Reel; Manufacturer: On Semiconductor; PartNumber: 7WB3126BMX1TCG; VCC Max (V): 5.5; VCC Min (V): 4; DatasheetVersion: Rev. 0; PackageVersion: Rev. A, 02/2008; PackageReference: ULLGA-8-613AB-01; PackageDescription: 8-Pin Land Grid Array, Body 1.6 x 1 mm, Pitch 0.4 mm; Supplier 1: Digi-Key; Supplier Part Number 1: 7WB3126BMX1TCG-ND; Supplier 2: Mouser; Supplier Part Number 2: 863-7WB3126BMX1TCG; Packing: Tape and Reel; RoHS: TRUE; Mounting Technology: Surface Mount; ComponentLink1Description: Manufacturer URL; ComponentLink1URL: http://www.onsemi.com/; ComponentLink2Description: Datasheet; ComponentLink2URL: http://www.onsemi.com/pub_link/Collateral/7WB3126-D.PDF; ComponentLink3Description: Package Specification; ComponentLink3URL: http://www.onsemi.com/pub_link/Collateral/613AB.PDF
footprint ONSC-ULLGA-8-613AB-01_V (SON, 8-Leads, Body 1.6x1mm, Pitch 0.4mm)
pins: 1 OE1 (in), 2 A1, 3 B2, 4 GND (power), 5 A2, 6 B1, 7 OE2 (in), 8 VCC (power)

## 7WB3126CMX1TCG
designator U?
2-Bit Bus Switch, 4 to 5.5 V, -55 to 125 degC, 8-Pin ULLGA, Pb-Free, Tape and Reel; Manufacturer: On Semiconductor; PartNumber: 7WB3126CMX1TCG; VCC Max (V): 5.5; VCC Min (V): 4; DatasheetVersion: Rev. 0; PackageVersion: Rev. A, 02/2008; PackageReference: ULLGA-8-613AA-01; PackageDescription: 8-Pin Land Grid Array, Body 1.45 x 1 mm, Pitch 0.35 mm; Supplier 1: Digi-Key; Supplier Part Number 1: 7WB3126CMX1TCG-ND; Supplier 2: Mouser; Supplier Part Number 2: 863-7WB3126CMX1TCG; Packing: Tape and Reel; RoHS: TRUE; Mounting Technology: Surface Mount; ComponentLink1Description: Manufacturer URL; ComponentLink1URL: http://www.onsemi.com/; ComponentLink2Description: Datasheet; ComponentLink2URL: http://www.onsemi.com/pub_link/Collateral/7WB3126-D.PDF; ComponentLink3Description: Package Specification; ComponentLink3URL: http://www.onsemi.com/pub_link/Collateral/613AA.PDF
footprint ONSC-ULLGA-8-613AA-01_V (SON, 8-Leads, Body 1.45x1mm, Pitch 0.35mm)
pins: 1 OE1 (in), 2 A1, 3 B2, 4 GND (power), 5 A2, 6 B1, 7 OE2 (in), 8 VCC (power)

## 7WB3126DMR2G
designator U?
2-Bit Bus Switch, 4 to 5.5 V, -55 to 125 degC, 8-Pin MICRO, Pb-Free, Tape and Reel; Manufacturer: On Semiconductor; PartNumber: 7WB3126DMR2G; VCC Max (V): 5.5; VCC Min (V): 4; DatasheetVersion: Rev. 0; PackageVersion: Rev. H; PackageReference: MICRO-8-846A-02_H; PackageDescription: 8-Pin Small Outline Package, Body 3 x 3 mm, Pitch 0.65 mm; Packing: Tape and Reel; RoHS: TRUE; Mounting Technology: Surface Mount; ComponentLink1Description: Manufacturer URL; ComponentLink1URL: http://www.onsemi.com/; ComponentLink2Description: Datasheet; ComponentLink2URL: http://www.onsemi.com/pub_link/Collateral/7WB3126-D.PDF; ComponentLink3Description: Package Specification; ComponentLink3URL: http://www.onsemi.com/pub_link/Collateral/NLSV2T244-D.PDF
footprint ONSC-MICRO-8-846A-02_H_V (SOIC, 8-Leads, Body 3.1x3.1mm, Pitch 0.65mm)
pins: 1 OE1 (in), 2 A1, 3 B2, 4 GND (power), 5 A2, 6 B1, 7 OE2 (in), 8 VCC (power)

## 7WB3126MUTAG
designator U?
2-Bit Bus Switch, 4 to 5.5 V, -55 to 125 degC, 8-Pin UDFN, Pb-Free, Tape and Reel; Manufacturer: On Semiconductor; PartNumber: 7WB3126MUTAG; VCC Max (V): 5.5; VCC Min (V): 4; DatasheetVersion: Rev. 0; PackageVersion: Rev. O, 11/2006; PackageReference: UDFN-8-517AJ-01; PackageDescription: 8-Pin Small Outline No-Lead, Body 1.8 x 1.2 mm, Pitch 0.4 mm; Supplier 1: Digi-Key; Supplier Part Number 1: 7WB3126MUTAG-ND; Supplier 2: Mouser; Supplier Part Number 2: 863-7WB3126MUTAG; Packing: Tape and Reel; RoHS: TRUE; Mounting Technology: Surface Mount; ComponentLink1Description: Manufacturer URL; ComponentLink1URL: http://www.onsemi.com/; ComponentLink2Description: Datasheet; ComponentLink2URL: http://www.onsemi.com/pub_link/Collateral/7WB3126-D.PDF; ComponentLink3Description: Package Specification; ComponentLink3URL: http://www.onsemi.cn/pub_link/Collateral/517AJ.PDF.1
footprint ONSC-UDFN-8-517AJ-01_V (SON, 8-Leads, Body 1.8x1.2mm, Pitch 0.4mm)
pins: 1 OE1 (in), 2 A1, 3 B2, 4 GND (power), 5 A2, 6 B1, 7 OE2 (in), 8 VCC (power)

## 7WB3305AMX1TCG
designator U?
2-Bit Bus Switch, 4 to 5.5 V, -55 to 125 degC, 8-Pin ULLGA, Pb-Free, Tape and Reel; Manufacturer: On Semiconductor; PartNumber: 7WB3305AMX1TCG; VCC Max (V): 5.5; VCC Min (V): 4; DatasheetVersion: Rev. 0; PackageVersion: Rev. A, 02/2008; PackageReference: ULLGA-8-613AC-01; PackageDescription: 8-Pin Land Grid Array, Body 1.95 x 1 mm, Pitch 0.5 mm; Supplier 1: Digi-Key; Supplier Part Number 1: 7WB3305AMX1TCG-ND; Supplier 2: Mouser; Supplier Part Number 2: 863-7WB3305AMX1TCG; Packing: Tape and Reel; RoHS: TRUE; Mounting Technology: Surface Mount; ComponentLink1Description: Manufacturer URL; ComponentLink1URL: http://www.onsemi.com/; ComponentLink2Description: Datasheet; ComponentLink2URL: http://www.onsemi.com/pub_link/Collateral/7WB3305-D.PDF; ComponentLink3Description: Package Specification; ComponentLink3URL: http://www.onsemi.com/pub_link/Collateral/613AC.PDF
footprint ONSC-ULLGA-8-613AC-01_V (ULLGA, 8-Leads, Body 1.95x1mm, Pitch 0.5mm)
pins: 1 OE1 (in), 2 A1, 3 B1, 4 GND (power), 5 A2, 6 B2, 7 OE2 (in), 8 VCC (power)